# Altium schematic symbol library CC2590.SchLib: 1 symbol
Pins are listed as number, name and electrical type; pins without a type are passive.

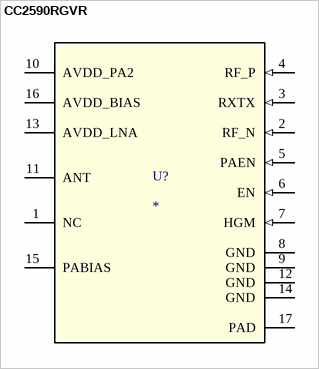
[diagram p0: symbol CC2590RGVR]

## CC2590RGVR
designator U?
Imported; PartNumber: CC2590RGVR; Manufacturer: Texas Instruments; RefDes: RefDes; TYPE: TYPE; Value: Value
footprint RGV0016A
pins: 1 NC, 2 RF_N (in), 3 RXTX (in), 4 RF_P (in), 5 PAEN (in), 6 EN (in), 7 HGM (in), 8 GND (power), 9 GND (power), 10 AVDD_PA2 (power), 11 ANT, 12 GND (power), 13 AVDD_LNA (power), 14 GND (power), 15 PABIAS, 16 AVDD_BIAS (power), 17 PAD (power)